# Altium footprint library global.PcbLib: 4 footprints
Each footprint in its own frame and in the unit in brackets; x right, y up, seen from the top. Pads: shape width x height; smd on the part's side, far side on the other; paste and mask are expansions set on the pad; w line width, h text height; cw(c..) or ccw(c..) is an arc to the next point about the centre after c.
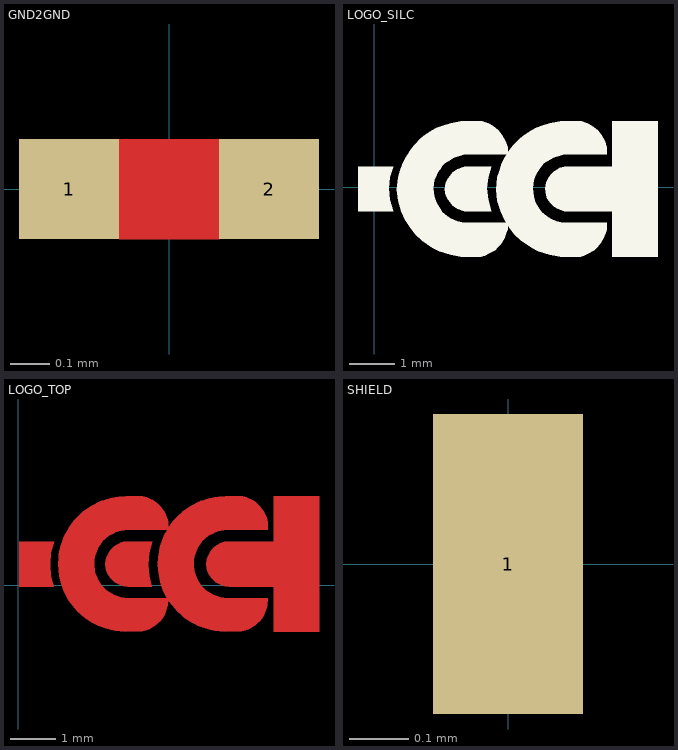
[diagram p0: the footprints below, top view; thin cyan lines are the x and y axes]

## GND2GND [mil]
pads (2):
  rect 10x10 smd: 1(-10,0) 2(10,0)
Top Layer:
  region: -5,-5 5,-5 5,5 -5,5

## LOGO_SILC [mil]
Top Overlay:
  drawing of 5 lines, arcs and shapes, not listed

## LOGO_TOP [mil]
Top Layer:
  region: 31.3,38.07 10.04,38.07 6.1,38.07 3.35,38.07 0.59,38.07 0.59,28.23 0.59,27.83 0.59,17.99 0.59,0.67 0.59,-1.3 4.13,-1.3 7.28,-1.3 10.04,-1.3 30.91,-1.3 28.54,8.15 27.76,17.99 28.54,28.23
  region: 108.87,77.58 100.87,77.58 93.87,77.58 87.88,77.05 84.73,76.65 82.37,76.26 80.4,75.87 78.83,75.47 77.25,75.08 76.07,74.69 74.89,74.29 73.71,73.9 72.53,73.5 71.74,73.11 70.56,72.72 69.77,72.32 65.05,69.96 63.08,68.78 60.72,67.2 59.54,66.42 57.96,65.24 56.39,64.06 55.99,63.66 55.6,63.27 53.63,61.69 50.48,58.54 48.51,56.18 46.27,53.15 44.18,50.28 42.21,46.73 40.64,43.98 39.46,41.22 38.67,39.25 37.49,35.71 36.7,32.95 35.91,29.8 35.52,27.05 35.13,24.29 34.73,18.39 35.13,12.87 35.91,7.76 37.17,2.48 38.28,-1.3 39.77,-5.32 41.07,-7.91 44.18,-13.5 47.72,-18.23 51.66,-22.95 55.6,-26.5 58.35,-28.86 60.72,-30.43 63.87,-32.4 67.41,-34.37 69.77,-35.55 72.25,-36.5 76.15,-37.8 79.22,-38.7 80.8,-39.09 84.73,-39.88 89.14,-40.39 93.79,-40.67 105.87,-40.42 108.37,-40.42 111.87,-39.42 114.37,-38.42 116.37,-37.42 117.87,-36.42 119.37,-35.42 121.37,-33.92 124.37,-30.92 126.87,-27.42 127.87,-25.42 128.87,-23.42 129.37,-21.92 129.87,-19.92 130.37,-17.92 130.87,-11.42 95.87,-11.42 92.37,-10.92 89.37,-10.42 85.87,-9.42 83.37,-8.42 76.87,-4.42 72.87,-0.42 69.87,4.08 67.87,8.58 67.37,10.08 66.87,12.58 66.37,17.58 66.37,21.08 66.87,24.58 67.87,28.08 68.37,29.58 68.87,30.58 69.37,31.58 69.87,32.58 70.37,33.58 72.37,36.58 73.87,38.58 75.37,40.08 76.37,41.08 78.37,42.58 79.87,43.58 81.87,44.58 82.87,45.08 84.87,46.08 86.37,46.58 87.87,47.08 89.87,47.58 92.37,48.08 94.37,48.58 94.87,48.58 95.87,48.58 130.87,48.58 130.87,55.08 130.37,57.58 129.87,59.08 128.87,61.58 127.87,63.58 125.87,66.58 123.87,69.08 121.37,71.58 119.37,73.08 116.87,74.58 115.87,75.08 113.87,76.08 112.37,76.58
  region: 117.05,38.07 95.79,38.07 91.85,37.68 89.1,36.89 87.52,36.1 85.95,35.31 85.16,34.92 83.98,34.13 82.8,32.95 82.01,32.17 81.62,31.77 81.22,31.38 80.83,30.98 79.1,28.46 78.47,27.44 78.07,26.65 77.68,25.87 76.89,23.9 76.5,21.97 76.11,18.39 76.5,14.17 77.8,10.28 80.4,6.38 82.01,4.61 83,3.78 84.3,2.48 86.74,1.06 89.49,-0.12 92.25,-0.91 95.79,-1.3 116.66,-1.3 114.3,8.15 113.51,17.99 114.3,28.23
  region: 195.87,77.58 187.87,77.58 180.87,77.58 174.88,77.05 171.73,76.65 169.37,76.26 167.4,75.87 165.83,75.47 164.25,75.08 163.07,74.69 161.89,74.29 160.71,73.9 159.53,73.5 158.74,73.11 157.56,72.72 156.77,72.32 152.05,69.96 150.08,68.78 147.72,67.2 146.54,66.42 144.96,65.24 143.39,64.06 142.99,63.66 142.6,63.27 140.63,61.69 137.48,58.54 135.51,56.18 133.27,53.15 131.18,50.28 129.21,46.73 127.64,43.98 126.46,41.22 125.67,39.25 124.49,35.71 123.7,32.95 122.91,29.8 122.52,27.05 122.13,24.29 121.73,18.39 122.13,12.87 122.91,7.76 124.17,2.48 125.28,-1.3 126.77,-5.32 128.07,-7.91 131.18,-13.5 134.72,-18.23 138.66,-22.95 142.6,-26.5 145.35,-28.86 147.72,-30.43 150.87,-32.4 154.41,-34.37 156.77,-35.55 159.25,-36.5 163.15,-37.8 166.22,-38.7 167.8,-39.09 171.73,-39.88 176.14,-40.39 180.79,-40.67 192.87,-40.42 195.37,-40.42 198.87,-39.42 201.37,-38.42 203.37,-37.42 204.87,-36.42 206.37,-35.42 208.37,-33.92 211.37,-30.92 213.87,-27.42 214.87,-25.42 215.87,-23.42 216.37,-21.92 216.87,-19.92 217.37,-17.92 217.87,-11.42 182.87,-11.42 179.37,-10.92 176.37,-10.42 172.87,-9.42 170.37,-8.42 163.87,-4.42 159.87,-0.42 156.87,4.08 154.87,8.58 154.37,10.08 153.87,12.58 153.37,17.58 153.37,21.08 153.87,24.58 154.87,28.08 155.37,29.58 155.87,30.58 156.37,31.58 156.87,32.58 157.37,33.58 159.37,36.58 160.87,38.58 162.37,40.08 163.37,41.08 165.37,42.58 166.87,43.58 168.87,44.58 169.87,45.08 171.87,46.08 173.37,46.58 174.87,47.08 176.87,47.58 179.37,48.08 181.37,48.58 181.87,48.58 182.87,48.58 217.87,48.58 217.87,55.08 217.37,57.58 216.87,59.08 215.87,61.58 214.87,63.58 212.87,66.58 210.87,69.08 208.37,71.58 206.37,73.08 203.87,74.58 202.87,75.08 200.87,76.08 199.37,76.58
  region: 223.31,38.07 183.94,38.07 180,37.68 177.24,36.89 175.67,36.1 174.09,35.31 173.31,34.92 172.13,34.13 170.94,32.95 170.16,32.17 169.76,31.77 169.37,31.38 168.98,30.98 167.24,28.46 166.61,27.44 166.22,26.65 165.83,25.87 165.04,23.9 164.65,21.97 164.25,18.39 164.65,14.17 165.94,10.28 168.54,6.38 170.16,4.61 171.14,3.78 172.44,2.48 174.88,1.06 177.64,-0.12 180.39,-0.91 183.94,-1.3 223.31,-1.3 223.31,-40.67 262.68,-40.67 262.68,77.44 223.31,77.44

## SHIELD [mil]
pads (1):
  rect 10x20 smd: 1(0,0)